# Altium footprint library RoboFly.PcbLib: 28 footprints (part 2 of 2)
Each footprint in its own frame and in the unit in brackets; x right, y up, seen from the top. Pads: shape width x height; smd on the part's side, far side on the other; paste and mask are expansions set on the pad; w line width, h text height; cw(c..) or ccw(c..) is an arc to the next point about the centre after c.
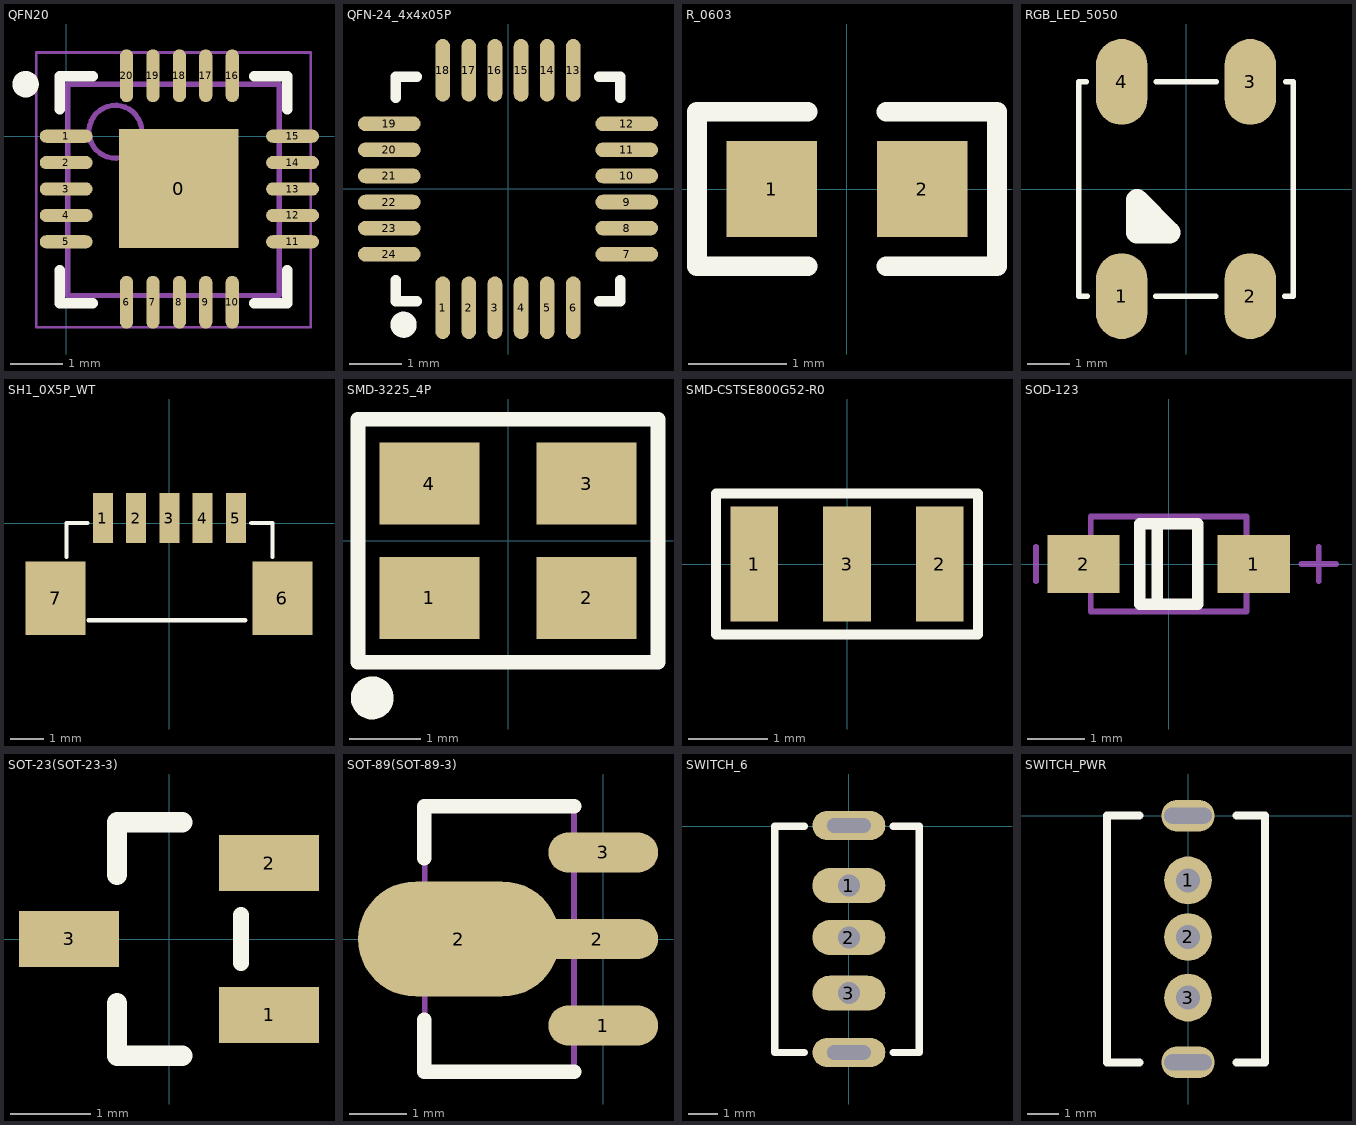
[diagram p1: the footprints below, top view; thin cyan lines are the x and y axes]

## QFN20 [mm]
pads (21):
  rect 2.261x2.261 smd: 0(2.134,-0.991)
  oval 1x0.25 smd: 1(0,0) 2(0,-0.5) 3(0,-1) 4(0,-1.5) 5(0,-2) 11(4.286,-2) 12(4.286,-1.5) 13(4.286,-1) 14(4.286,-0.5) 15(4.286,0)
  oval 0.25x1 smd: 6(1.143,-3.143) 7(1.643,-3.143) 8(2.143,-3.143) 9(2.643,-3.143) 10(3.143,-3.143) 16(3.143,1.143) 17(2.643,1.143) 18(2.143,1.143) 19(1.643,1.143) 20(1.143,1.143)
Top Overlay:
  circle w0.25: c-0.768,0.984 r0.125
  lines w0.2: -0.118,-2.541 -0.118,-3.166 0.507,-3.166 ; -0.118,0.509 -0.118,1.134 0.507,1.134 ; 3.557,-3.166 4.182,-3.166 4.182,-2.541 ; 3.557,1.134 4.182,1.134 4.182,0.509
Mechanical 13:
  circle w0.1: c0.932,0.084 r0.5
  lines w0.1: 0.032,-3.016 0.032,0.984 4.032,0.984 4.032,-3.016 0.032,-3.016
Mechanical 15:
  lines w0.05: -0.568,-3.616 -0.568,1.584 4.632,1.584 4.632,-3.616 -0.568,-3.616
  lines w0.1: 1.532,-1.016 2.532,-1.016 ; 2.032,-1.516 2.032,-0.516
3D body: height 0.9, standoff 0.01, extent 0.032,-3.016 4.032,0.984

## QFN-24_4x4x05P [mm]
height 1
pads (24):
  oval 0.28x1.2 smd mask+0.051: 1(-1.25,-2.273) 2(-0.75,-2.273) 3(-0.25,-2.273) 4(0.25,-2.273) 5(0.75,-2.273) 6(1.25,-2.273) 13(1.25,2.273) 14(0.75,2.273) 15(0.25,2.273) 16(-0.25,2.273) 17(-0.75,2.273) 18(-1.25,2.273)
  oval 1.2x0.28 smd mask+0.051: 7(2.273,-1.25) 8(2.273,-0.75) 9(2.273,-0.25) 10(2.273,0.25) 11(2.273,0.75) 12(2.273,1.25) 19(-2.273,1.25) 20(-2.273,0.75) 21(-2.273,0.25) 22(-2.273,-0.25) 23(-2.273,-0.75) 24(-2.273,-1.25)
Top Overlay:
  circle w0.25: c-2,-2.6 r0.125
  lines w0.2: -2.15,-1.75 -2.15,-2.15 -1.75,-2.15 ; -2.15,1.75 -2.15,2.15 -1.75,2.15 ; 1.75,-2.15 2.15,-2.15 2.15,-1.75 ; 1.75,2.15 2.15,2.15 2.15,1.75
3D body: height 0.9, standoff 0.01, extent -2,-2 2,2

## R_0603 [mm]
pads (2):
  rect 0.93x0.98 smd: 1(-0.77,0) 2(0.77,0)
Top Overlay:
  lines w0.2: -0.4,-0.79 -1.535,-0.79 -1.535,0.79 -0.4,0.79 ; 0.4,-0.79 1.535,-0.79 1.535,0.79 0.4,0.79
3D body "User Library-RES_1609-0603.STEP": height 0.56, standoff 0, extent -0.85,-0.4 0.85,0.4

## RGB_LED_5050 [mm]
pads (4):
  oval 1.2x2 smd: 1(-1.5,-2.5) 2(1.5,-2.5) 3(1.5,2.5) 4(-1.5,2.5)
Top Overlay:
  lines w0.127: -2.326,2.5 -2.5,2.5 -2.5,-2.5 -2.3,-2.5 ; -0.711,-2.5 0.697,-2.5 ; -0.697,2.5 0.711,2.5 ; 2.3,-2.5 2.5,-2.5 2.5,2.5 2.326,2.5
  lines w0.508: -1.143,-1.016 -0.381,-1.016 -1.143,-0.254 -1.143,-1.016
3D body "User Library-ws2812B-1White.STEP": height 1.55, standoff -0.02, extent -2.5,-2.7 2.5,2.7

## SH1_0X5P_WT [mm]
height 5
pads (7):
  rect 0.6x1.5 smd: 1(-2,0.15) 2(-1,0.15) 3(0,0.15) 4(1,0.15) 5(2,0.15)
  rect 1.8x2.2 smd: 6(3.404,-2.261) 7(-3.429,-2.261)
Top Overlay:
  lines w0.127: -3.1,-1.016 -3.1,0 -2.464,0 ; -2.438,-2.924 0,-2.924 2.286,-2.924 ; 2.464,0 3.1,0 3.1,-1.016
3D body "SH1_0_5PSTEP.STEP": height 2.9, standoff 0, extent -3.551,-4.039 3.449,0.911

## SMD-3225_4P [mm]
pads (4):
  rect 1.4x1.15 smd: 1(-1.1,-0.8) 2(1.1,-0.8) 3(1.1,0.8) 4(-1.1,0.8)
Top Overlay:
  circle w0.3: c-1.9,-2.2 r0.15
  lines w0.203: -2.1,-1.7 2.1,-1.7 2.1,1.7 -2.1,1.7 -2.1,-1.7
3D body "User Library-3225-1.STEP": height 0.61, standoff 0, extent -1.6,-1.25 1.6,1.25

## SMD-CSTSE800G52-R0 [mm]
pads (3):
  rect 0.6x1.45 smd: 1(-1.168,0) 2(1.168,0) 3(0,0)
Top Overlay:
  lines w0.127: -1.651,-0.889 -1.651,0.889 1.651,0.889 1.651,-0.889 -1.651,-0.889
3D body "SW3dPS-CSTCE.STEP": height 0.7, standoff 0, extent -1.613,-0.65 1.587,0.65
3D body: height 0.5, standoff 0, extent -1.549,-0.762 1.524,0.762

## SOD-123 [mm]
pads (2):
  rect 1.25x1 smd: 1(1.475,0) 2(-1.475,0)
Top Overlay:
  lines w0.2: -0.2,-0.7 -0.2,0.7 ; -0.5,-0.7 0.5,-0.7 0.5,0.7 -0.5,0.7 -0.5,-0.7
Mechanical 13:
  lines w0.1: -1.35,-0.825 -1.35,0.825 1.35,0.825 1.35,-0.825 -1.35,-0.825
Mechanical 15:
  lines w0.1: -2.3,-0.3 -2.3,0.3 ; 2.3,0 2.9,0 ; 2.6,-0.3 2.6,0.3
3D body "SOD123.STEP": height 1.35, standoff 0, extent -1.85,-0.775 1.85,0.775

## SOT-23(SOT-23-3) [mm]
pads (3):
  rect 1.25x0.7 smd: 1(1.25,-0.95) 2(1.25,0.95) 3(-1.25,0)
Top Overlay:
  lines w0.2: 0.9,-0.3 0.9,0.3
  lines w0.254: -0.65,-0.8 -0.65,-1.46 0.165,-1.46 ; -0.65,0.8 -0.65,1.46 0.165,1.46
3D body "SOT23-3.STEP": height 1.05, standoff 0, extent -1.251,-1.5 1.149,1.5

## SOT-89(SOT-89-3) [mm]
pads (4):
  oval 1.9x0.7 smd: 1(0,-1.5) 3(0,1.5)
  oval 3.5x2 smd: 2(-2.5,0)
  oval 2.1x0.7 smd: 2(-0.1,0)
Top Overlay:
  lines w0.254: -3.1,-1.4 -3.1,-2.3 -0.5,-2.3 ; -3.1,1.4 -3.1,2.3 -0.5,2.3
Mechanical 13:
  lines w0.1: -3.095,-2.3 -3.095,2.3 -0.505,2.3 -0.505,-2.3 -3.095,-2.3
3D body "SOT-89-3.STEP": height 1.51, standoff 0, extent -3.75,-2.25 0.55,2.25

## SWITCH_6 [mm]
height 5
pads (5):
  oval 2.5x1.2 hole 0.75: 1(0,-2.032) 2(0,-3.81) 3(0,-5.715)
  oval 2.5x1 hole 0.5 slot 1.5 at 0 deg: ""(0,-7.747) ""(0,0.025)
Top Overlay:
  lines w0.25: -1.524,-7.747 -2.54,-7.747 -2.54,0 -1.524,0 ; 1.524,-7.747 2.413,-7.747 2.413,0 1.524,0
3D body "3.681.STEP": height 6.5, standoff -5, extent -1.85,-8.06 1.85,0.44

## SWITCH_PWR [mm]
height 5
pads (5):
  round 1.5 hole 0.75: 1(0,-2.032) 2(0,-3.81) 3(0,-5.715)
  oval 1.676x1 hole 0.5 slot 1.5 at 0 deg: ""(0,0) ""(0,-7.747)
Top Overlay:
  lines w0.25: -1.524,-7.747 -2.54,-7.747 -2.54,0 -1.524,0 ; 1.524,-7.747 2.413,-7.747 2.413,0 1.524,0
3D body "3.681.STEP": height 6.5, standoff -5, extent -1.85,-8.06 1.85,0.44